# Altium footprint library Capacitors.PcbLib: 21 footprints (part 1 of 2)
Each footprint in its own frame and in the unit in brackets; x right, y up, seen from the top. Pads: shape width x height; smd on the part's side, far side on the other; paste and mask are expansions set on the pad; w line width, h text height; cw(c..) or ccw(c..) is an arc to the next point about the centre after c.
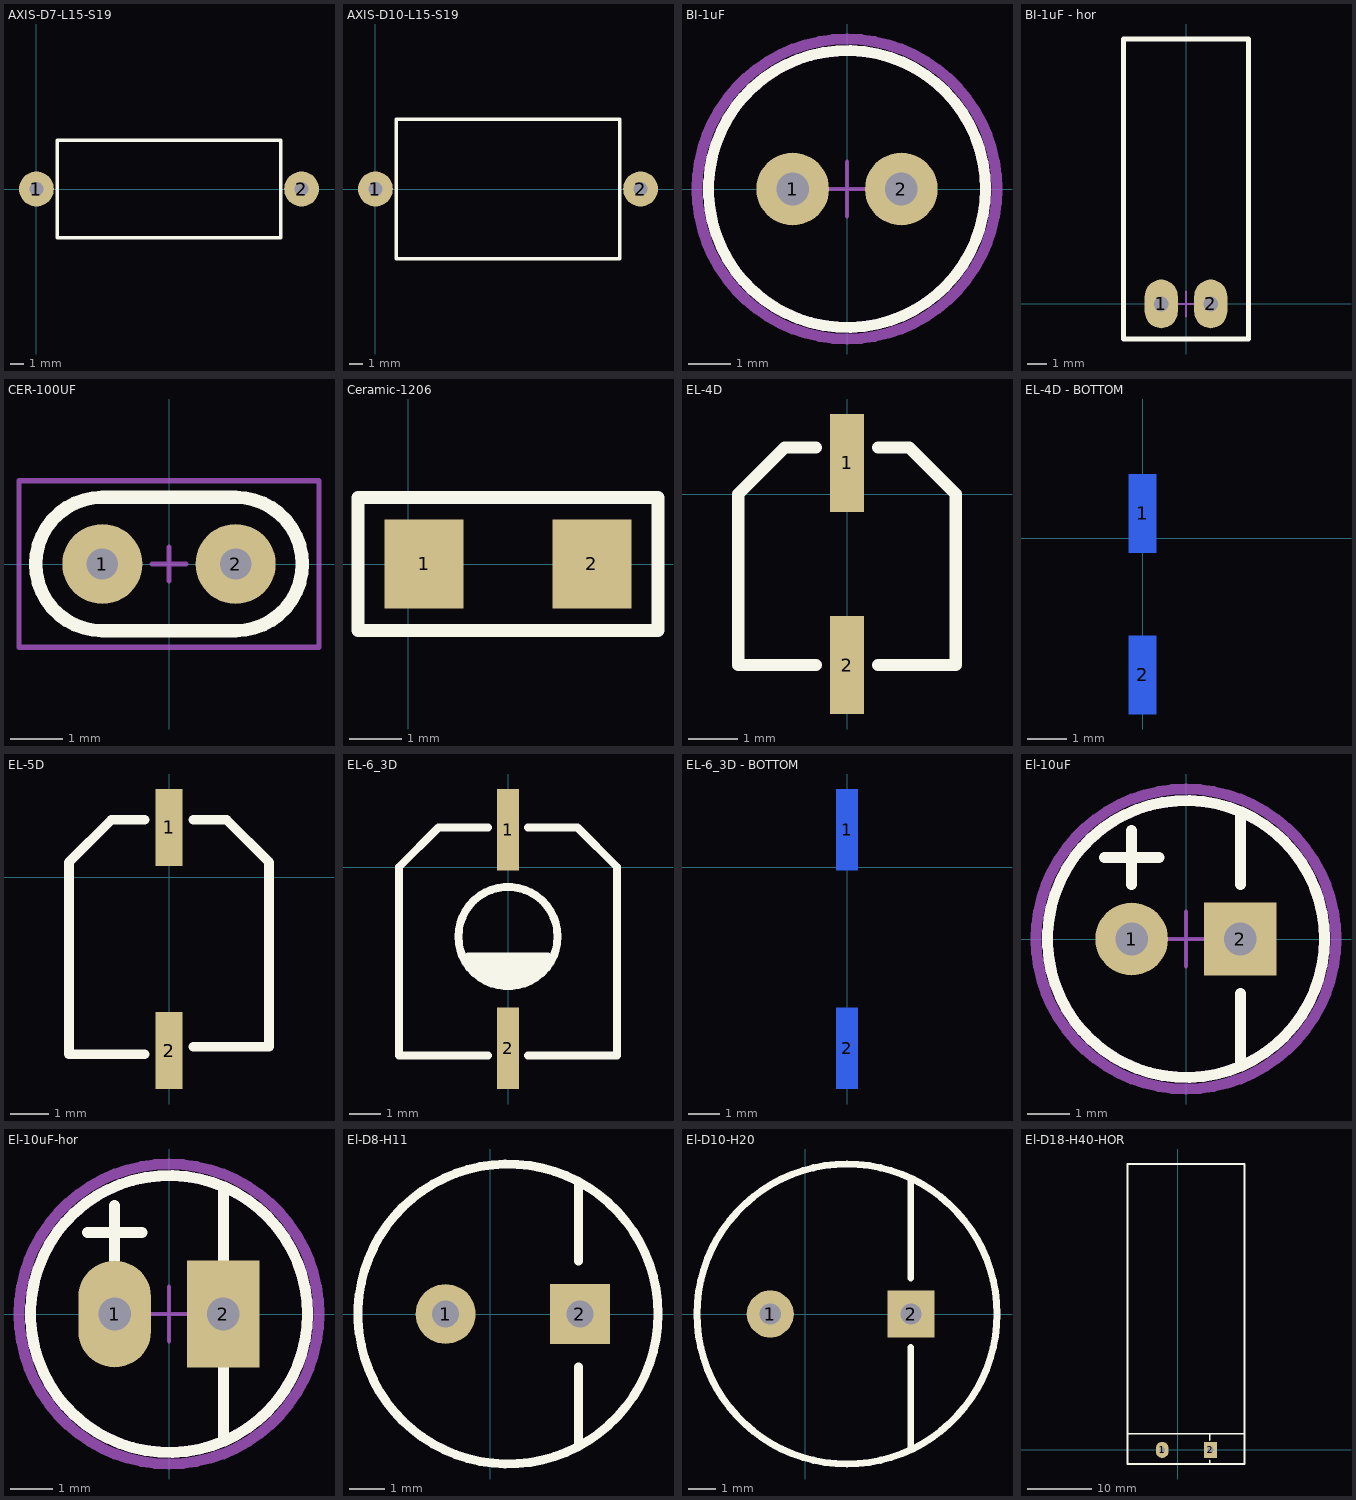
[diagram p0: the footprints below, top view; thin cyan lines are the x and y axes]

## AXIS-D7-L15-S19 [mm]
pads (2):
  round 2.5 hole 1: 1(0,0) 2(19,0)
Top Overlay:
  lines w0.25: 1.5,-3.5 5.5,-3.5 13.5,-3.5 17.5,-3.5 17.5,3.5 1.5,3.5 1.5,-3.5
3D body "Capacitor-Axis-D7-L15-S19.X_T": height 8, standoff -4.5, extent -0.3,-3.497 19.35,3.497

## AXIS-D10-L15-S19 [mm]
pads (2):
  round 2.5 hole 1: 1(0,0) 2(19,0)
Top Overlay:
  lines w0.25: 1.5,-5 5.5,-5 13.5,-5 17.5,-5 17.5,5 1.5,5 1.5,-5
3D body "Capacitor-Axis-D10-L15-S19.X_T": height 9.5, standoff -4.5, extent -0.3,-5 19.35,5

## BI-1uF [mm]
pads (2):
  round 1.7 hole 0.762: 1(-1.27,0) 2(1.27,0)
Top Overlay:
  circle w0.254: c0,0 r3.238
Top Assy:
  circle w0.254: c0,0 r3.238
Border:
  circle w0.254: c0,0 r3.507
  lines w0.1: -0.635,0 0.635,0 ; 0,-0.635 0,0.635
3D body "Capacitor_El_6_3x11x2_5.STEP": height 12.9, standoff -2.1, extent -3.134,-3.121 3.175,3.175

## BI-1uF - hor [mm]
pads (2):
  oval 1.7x2.5 hole 0.762: 1(-1.27,0) 2(1.27,0)
Top Overlay:
  lines w0.254: -3.2,-1.8 3.2,-1.8 3.2,13.6 -3.2,13.6 -3.2,-1.8
Border:
  lines w0.1: -0.635,0 0.635,0 ; 0,-0.635 0,0.635
3D body "Capacitor_El_6_3x11x2_5_Hor.STEP": height 6.35, standoff -0.87, extent -3.149,-0.241 3.149,13.5

## CER-100UF [mil]
pads (2):
  round 60 hole 23.62: 1(-50,0) 2(50,0)
Top Overlay:
  lines w10: -100,0 cw(c-50,0) -50,50 50,50 cw(c50,0) 100,0 cw(c50,0) 50,-50 -50,-50 cw(c-50,0) -100,0
Top Assy:
  lines w3.94: -112.5,-62.5 -112.5,62.5 112.5,62.5 112.5,-62.5 -112.5,-62.5
Border:
  lines w3.94: -12.5,0 12.5,0 ; 0,-12.5 0,12.5 ; -112.5,-62.5 -112.5,62.5 112.5,62.5 112.5,-62.5 -112.5,-62.5
3D body "Capacitor_Cer_2_5.STEP": height 255.88, standoff -91.77, extent -108.28,-49.21 108.28,49.22

## Ceramic-1206 [mm]
pads (2):
  rect 1.5x1.7 smd: 1(0.305,0) 2(3.505,0)
Top Overlay:
  lines w0.25: -0.953,-1.27 -0.953,1.27 4.763,1.27 4.763,-1.27 -0.953,-1.27
3D body "User Library-1206 SMD Capacitor.X_B": height 1, standoff 0, extent 0.3,-0.8 3.5,0.8

## EL-4D [mm]
pads (2):
  rect 0.7x2 smd: 1(0,0.635) 2(0,-3.492)
Top Overlay:
  lines w0.25: -0.635,-3.492 -2.222,-3.492 -2.222,0 -1.27,0.953 -0.635,0.953 ; 0.635,-3.492 2.222,-3.492 2.222,0 1.27,0.953 0.635,0.953
3D body "Capacitor_El_4Dx3_9H-SMD.STEP": height 3.91, standoff 0, extent -2.15,-3.629 2.15,0.971

## EL-4D - BOTTOM [mm]
pads (2):
  rect 0.7x2 smd far side: 1(0,0.635) 2(0,-3.492)
Top Overlay:
  region: 4.445,3.175
  region: -0.953,-3.175
  region: 0.476,-3.651
  region: 0.635,-3.492
Bottom Overlay:
  lines w0.25: -0.635,-3.492 -2.222,-3.492 -2.222,0 -1.27,0.953 -0.635,0.953 ; 0.635,-3.492 2.222,-3.492 2.222,0 1.27,0.953 0.635,0.953
3D body "Capacitor_El_4Dx3_9H-SMD.STEP": height -1.6, standoff -5.51, extent -2.15,-3.629 2.15,0.971

## EL-5D [mm]
pads (2):
  rect 0.7x2 smd: 1(0,1.3) 2(0,-4.5)
Top Overlay:
  lines w0.25: -0.635,-4.6 -2.6,-4.6 -2.6,0.4 -1.5,1.5 -0.635,1.5 ; 0.635,-4.4 2.6,-4.4 2.6,0.4 1.5,1.5 0.635,1.5
3D body "User Library-CAP SMD SVP 5_0x5_9.X_B": height 5.9, standoff 0, extent -2.65,-4.5 2.65,1.5

## EL-6_3D [mm]
pads (2):
  rect 0.7x2.6 smd: 1(0,1.2) 2(0,-5.8)
Top Overlay:
  circle w0.254: c0,-2.222 r1.587
  region: -1.27,-2.857 -1.27,-3.175 -0.635,-3.81 0.318,-3.81 0.635,-3.81 1.587,-2.857
  lines w0.25: -1.27,-2.857 1.27,-2.857 ; -0.635,-6.032 -3.492,-6.032 -3.492,0 -2.222,1.27 -0.635,1.27 ; 0.635,-6.032 3.492,-6.032 3.492,0 2.222,1.27 0.635,1.27
3D body "Capacitor_El_6_3Dx3_9H-SMD.STEP": height 3.91, standoff 0, extent -3.3,-5.8 3.3,1.2

## EL-6_3D - BOTTOM [mm]
pads (2):
  rect 0.7x2.6 smd far side: 1(0,1.2) 2(0,-5.8)
Bottom Overlay:
  circle w0.254: c0,-2.222 r1.587
  region: -1.27,-2.857 -1.27,-3.175 -0.635,-3.81 0.318,-3.81 0.635,-3.81 1.587,-2.857
  lines w0.25: -1.27,-2.857 1.27,-2.857 ; -0.635,-6.032 -3.492,-6.032 -3.492,0 -2.222,1.27 -0.635,1.27 ; 0.635,-6.032 3.492,-6.032 3.492,0 2.222,1.27 0.635,1.27
3D body "Capacitor_El_6_3Dx3_9H-SMD.STEP": height -1.6, standoff -5.51, extent -3.3,-5.8 3.3,1.2

## El-10uF [mm]
pads (2):
  round 1.7 hole 0.762: 1(-1.27,0)
  rect 1.7x1.7 hole 0.762: 2(1.27,0)
Top Overlay:
  circle w0.254: c0,0 r3.238
  lines w0.254: -1.905,1.905 -0.635,1.905 ; -1.27,1.27 -1.27,2.54 ; 1.27,-2.857 1.27,-1.27 ; 1.27,1.27 1.27,2.857
Top Assy:
  circle w0.254: c0,0 r3.238
Border:
  circle w0.254: c0,0 r3.507
  lines w0.1: -0.635,0 0.635,0 ; 0,-0.635 0,0.635
3D body "Capacitor_El_6_3x11x2_5.STEP": height 12.9, standoff -2.1, extent -3.134,-3.121 3.175,3.175

## El-10uF-hor [mm]
pads (2):
  oval 1.7x2.5 hole 0.762: 1(-1.27,0)
  rect 1.7x2.5 hole 0.762: 2(1.27,0)
Top Overlay:
  circle w0.254: c0,0 r3.238
  lines w0.254: -1.905,1.905 -0.635,1.905 ; -1.27,1.27 -1.27,2.54 ; 1.27,-2.857 1.27,-1.27 ; 1.27,1.27 1.27,2.857
Top Assy:
  circle w0.254: c0,0 r3.238
Border:
  circle w0.254: c0,0 r3.507
  lines w0.1: -0.635,0 0.635,0 ; 0,-0.635 0,0.635
3D body "Capacitor_El_6_3x11x2_5_Hor.STEP": height 6.35, standoff -0.87, extent -3.098,-0.07 3.2,13.67

## El-D8-H11 [mm]
pads (2):
  round 1.7 hole 0.762: 1(-1.27,0)
  rect 1.7x1.7 hole 0.762: 2(2.54,0)
Top Overlay:
  circle w0.254: c0.5,0 r4.254
  lines w0.25: 2.5,-3.7 2.5,-1.5 ; 2.5,1.5 2.5,3.7
3D body "Capacitor_El_D8-H11.STEP": height 13.4, standoff -2.6, extent -3.8,-4.247 4.7,4.247

## El-D10-H20 [mm]
pads (2):
  round 1.7 hole 0.762: 1(-1.27,0)
  rect 1.7x1.7 hole 0.762: 2(3.81,0)
Top Overlay:
  circle w0.254: c1.5,0 r5.413
  lines w0.25: 3.8,-4.8 3.8,-1.2 ; 3.8,1.3 3.8,4.9
3D body "Capacitor_El-D10-H20.STEP": height 22.4, standoff -2.6, extent -3.81,-5.249 6.69,5.249

## El-D18-H40-HOR [mm]
pads (2):
  oval 2x2.5 hole 0.9: 1(-2.4,0)
  rect 2x2.5 hole 0.9: 2(5.1,0)
Top Overlay:
  lines w0.254: -7.7,2.5 10.3,2.5 ; 5,-2.1 5,-1.6 ; 5,1.5 5,2.4 ; -7.8,-2.2 10.4,-2.2 10.4,44.5 -7.8,44.5 -7.8,-2.2
3D body "cap_40H-18D.stp": height 18.2, standoff -0.69, extent -7.701,-0.3 10.301,44.43